# Altium footprint library LED_DOME_SAMP_4LED.PcbLib: 1 footprints
Each footprint in its own frame and in the unit in brackets; x right, y up, seen from the top. Pads: shape width x height; smd on the part's side, far side on the other; paste and mask are expansions set on the pad; w line width, h text height; cw(c..) or ccw(c..) is an arc to the next point about the centre after c.
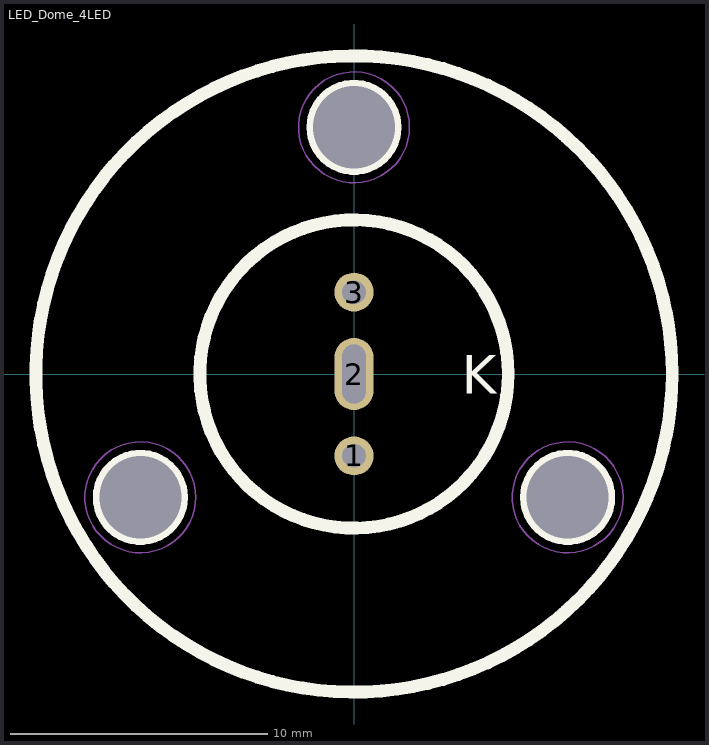
[diagram p0: the footprint, top view; thin cyan lines are the x and y axes]

## LED_Dome_4LED [mm]
height 0.8
pads (6):
  round 1.52 hole 0.92: 1(0,-3.186) 3(0,3.186)
  oval 1.52x2.8 hole 0.92 slot 2.3 at 90 deg: 2(0,0)
  round 1.016 hole 3.2 unplated: ""(-8.314,-4.8) ""(0,9.6) ""(8.314,-4.8)
Top Overlay:
  circle w0.5: c0,0 r12.383
  circle w0.5: c0,0 r6.001
  circle w0.5: c8.314,-4.8 r1.6
  circle w0.5: c-8.314,-4.8 r1.6
  circle w0.5: c0,9.6 r1.6
  text "K" at 4.191,-0.762 h1.5
Mechanical 13:
  circle w0.05: c-8.314,-4.8 r2.159
  circle w0.05: c0,9.6 r2.159
  circle w0.05: c8.314,-4.8 r2.159
3D body "WL-TMRW_3mm.stp": height 10.5, standoff -21.2, extent -1.949,0.006 1.95,3.826
3D body "WL-TMRW_3mm.stp": height 10.5, standoff -21.2, extent -1.95,-3.826 1.949,-0.006